# Altium schematic symbol library Speeduino_Symbols.SchLib: 1 symbol
Pins are listed as number, name and electrical type; pins without a type are passive.

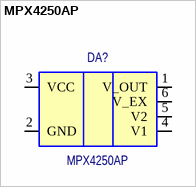
[diagram p0: symbol MPX4250AP]

## MPX4250AP
designator DA?
PartNumber: MPX4250AP
footprint CASE 867B-04 (Pressure sensor case THT)
pins: 1 V_OUT, 2 GND, 3 VCC, 4 V1, 5 V2, 6 V_EX